# Altium footprint library TD521D485.PcbLib: 1 footprints
Each footprint in its own frame and in the unit in brackets; x right, y up, seen from the top. Pads: shape width x height; smd on the part's side, far side on the other; paste and mask are expansions set on the pad; w line width, h text height; cw(c..) or ccw(c..) is an arc to the next point about the centre after c.
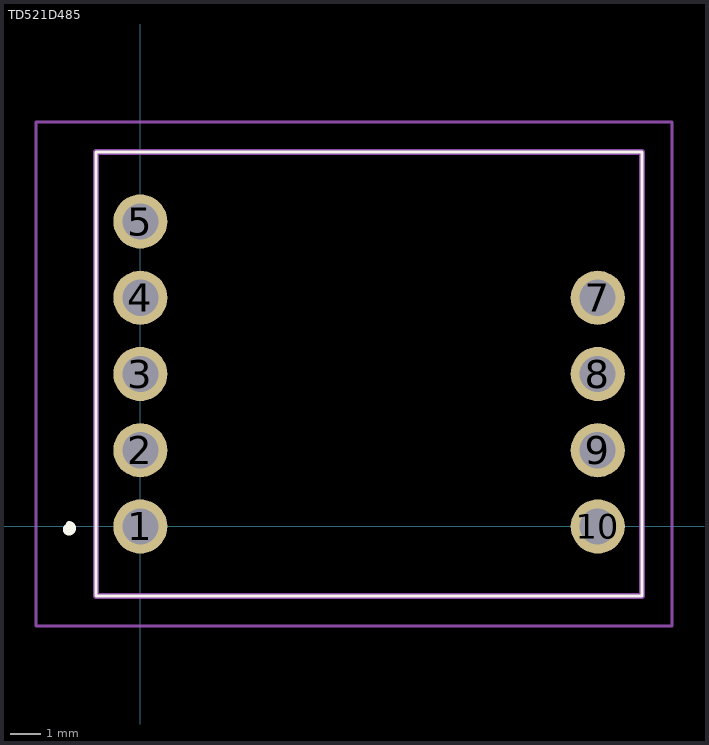
[diagram p0: the footprint, top view; thin cyan lines are the x and y axes]

## TD521D485 [mm]
pads (9):
  round 1.8 hole 1.2: 1(0,0) 2(0,2.54) 3(0,5.08) 4(0,7.62) 5(0,10.16) 7(15.24,7.62) 8(15.24,5.08) 9(15.24,2.54) 10(15.24,0)
Top Overlay:
  lines w0.1: -1.48,-2.32 16.72,-2.32 16.72,12.48 -1.48,12.48 -1.48,-2.32
  lines w0.2: -2.38,0.08 cw(c-2.38,-0.06) -2.38,-0.2 ; -2.38,-0.2 cw(c-2.38,-0.1) -2.38,0 ; -2.38,-0.2 -2.38,-0.2 ; -2.38,0 -2.38,0
Mechanical 15:
  lines w0.2: -1.48,-2.32 16.72,-2.32 16.72,12.48 -1.48,12.48 -1.48,-2.32
Mechanical 20:
  lines w0.1: -3.48,-3.32 17.72,-3.32 17.72,13.48 -3.48,13.48 -3.48,-3.32